# Altium footprint library GateDrivers.PcbLib: 7 footprints
Each footprint in its own frame and in the unit in brackets; x right, y up, seen from the top. Pads: shape width x height; smd on the part's side, far side on the other; paste and mask are expansions set on the pad; w line width, h text height; cw(c..) or ccw(c..) is an arc to the next point about the centre after c.
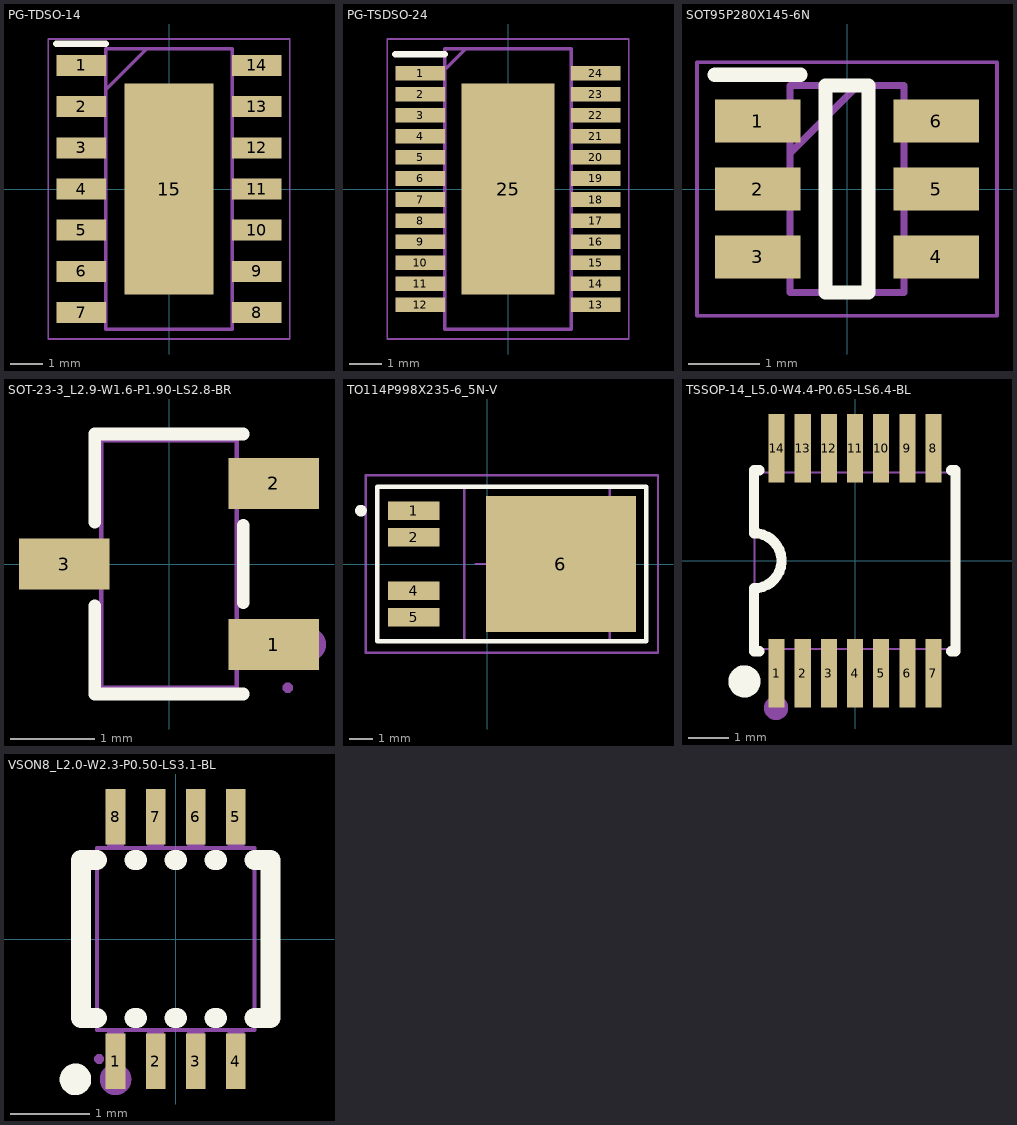
[diagram p0: the footprints below, top view; thin cyan lines are the x and y axes]

## PG-TDSO-14 [mm]
pads (15):
  rect 1.525x0.65 smd: 1(-2.712,3.81) 2(-2.712,2.54) 3(-2.712,1.27) 4(-2.712,0) 5(-2.712,-1.27) 6(-2.712,-2.54) 7(-2.712,-3.81) 8(2.712,-3.81) 9(2.712,-2.54) 10(2.712,-1.27) 11(2.712,0) 12(2.712,1.27) 13(2.712,2.54) 14(2.712,3.81)
  rect 2.75x6.5 smd: 15(0,0)
Top Overlay:
  lines w0.2: -3.475,4.485 -1.95,4.485
Mechanical 13:
  lines w0.1: -1.95,3.055 -0.68,4.325 ; -1.95,-4.325 -1.95,4.325 1.95,4.325 1.95,-4.325 -1.95,-4.325
Mechanical 15:
  lines w0.05: -3.725,-4.625 -3.725,4.625 3.725,4.625 3.725,-4.625 -3.725,-4.625
3D body "BTT60502ERAXUMA1.stp": height 1.15, standoff 0, extent -3,-4.325 3,4.325

## PG-TSDSO-24 [mm]
pads (25):
  rect 1.525x0.45 smd: 1(-2.712,3.575) 2(-2.712,2.925) 3(-2.712,2.275) 4(-2.712,1.625) 5(-2.712,0.975) 6(-2.712,0.325) 7(-2.712,-0.325) 8(-2.712,-0.975) 9(-2.712,-1.625) 10(-2.712,-2.275) 11(-2.712,-2.925) 12(-2.712,-3.575) 13(2.712,-3.575) 14(2.712,-2.925) 15(2.712,-2.275) 16(2.712,-1.625) 17(2.712,-0.975) 18(2.712,-0.325) 19(2.712,0.325) 20(2.712,0.975) 21(2.712,1.625) 22(2.712,2.275) 23(2.712,2.925) 24(2.712,3.575)
  rect 2.87x6.5 smd: 25(0,0)
Top Overlay:
  lines w0.2: -3.475,4.15 -1.95,4.15
Mechanical 13:
  lines w0.1: -1.95,3.675 -1.3,4.325 ; -1.95,-4.325 1.95,-4.325 1.95,4.325 -1.95,4.325 -1.95,-4.325
Mechanical 15:
  lines w0.05: -3.725,-4.625 3.725,-4.625 3.725,4.625 -3.725,4.625 -3.725,-4.625
3D body "BTT62004ESAXUMA1.stp": height 1.15, standoff 0, extent -3,-4.325 3,4.325

## SOT95P280X145-6N [mm]
pads (6):
  rect 1.2x0.6 smd: 1(-1.25,0.95) 2(-1.25,0) 3(-1.25,-0.95) 4(1.25,-0.95) 5(1.25,0) 6(1.25,0.95)
Top Overlay:
  lines w0.2: -1.85,1.6 -0.65,1.6 ; -0.3,-1.45 -0.3,1.45 0.3,1.45 0.3,-1.45 -0.3,-1.45
Mechanical 13:
  lines w0.1: -0.8,0.5 0.15,1.45 ; -0.8,-1.45 -0.8,1.45 0.8,1.45 0.8,-1.45 -0.8,-1.45
Mechanical 15:
  lines w0.05: -2.1,-1.775 -2.1,1.775 2.1,1.775 2.1,-1.775 -2.1,-1.775
3D body "SN74LVC1T45DBVR.stp": height 1.2, standoff 0, extent -1.4,-1.45 1.4,1.45

## SOT-23-3_L2.9-W1.6-P1.90-LS2.8-BR [mm]
pads (3):
  rect 1.07x0.6 smd: 1(1.235,-0.95) 2(1.235,0.95) 3(-1.235,0)
Top Overlay:
  lines w0.152: -0.876,-0.495 -0.876,-1.536 0.876,-1.536 ; -0.876,0.495 -0.876,1.536 0.876,1.536 ; 0.876,-0.455 0.876,0.455
Mechanical 6:
  circle w0.2: c1.651,-0.95 r0.1
Mechanical 15:
  region: 1.46,-1.46 1.46,-1.435 1.425,-1.4 1.375,-1.4 1.34,-1.435 1.34,-1.46 1.34,-1.485 1.375,-1.52 1.425,-1.52 1.46,-1.485 1.46,-1.46
  region: 0.95,-1.15 0.95,-0.75 1.4,-0.75 1.4,-1.15
  region: 0.79,-1.15 0.79,-0.75 0.96,-0.75 0.96,-1.15
  region: 0.95,0.75 0.95,1.15 1.4,1.15 1.4,0.75
  region: 0.79,0.75 0.79,1.15 0.96,1.15 0.96,0.75
  region: -0.95,-0.2 -0.95,0.2 -1.4,0.2 -1.4,-0.2
  region: -0.96,-0.2 -0.96,0.2 -0.79,0.2 -0.79,-0.2
  lines w0.051: -0.8,-1.46 -0.8,1.46 0.8,1.46 0.8,-1.46 -0.8,-1.46

## TO114P998X235-6_5N-V [mm] "TO,1.14mm pitch;5 pin,9.98mm L X 6.12mm W X 2.35mm H body"
height 2.35
pads (5):
  rect 2.2x0.8 smd paste+0 mask+0: 1(-3.15,2.28) 2(-3.15,1.14) 4(-3.15,-1.14) 5(-3.15,-2.28)
  rect 6.4x5.8 smd paste+0 mask+0: 6(3.15,0)
Top Overlay:
  circle w0.25: c-5.4,2.28 r0.125
  lines w0.2: -4.7,-3.3 -4.7,3.3 6.8,3.3 6.8,-3.3 -4.7,-3.3
Mechanical 3:
  text ".DESIGNATOR" at 0,0 h1.2
Mechanical 13:
  lines w0.1: -0.98,-3.25 5.24,-3.25 5.24,3.25 -0.98,3.25 -0.98,-3.25
Mechanical 15:
  lines w0.1: -0.5,0 0.5,0 ; 0,-0.5 0,0.5 ; -5.2,-3.8 7.3,-3.8 7.3,3.8 -5.2,3.8 -5.2,-3.8
3D body "PG-TO252-5-11.stp": height 2.36, standoff 0, extent -3.94,-3.25 6.04,3.25

## TSSOP-14_L5.0-W4.4-P0.65-LS6.4-BL [mm]
pads (14):
  rect 0.4x1.7 smd: 1(-1.95,-2.8) 2(-1.3,-2.8) 3(-0.65,-2.8) 4(0,-2.8) 5(0.65,-2.8) 6(1.3,-2.8) 7(1.95,-2.8) 8(1.95,2.8) 9(1.3,2.8) 10(0.65,2.8) 11(0,2.8) 12(-0.65,2.8) 13(-1.3,2.8) 14(-1.95,2.8)
Top Overlay:
  circle w0.4: c-2.75,-3 r0.2
  lines w0.254: -2.515,-2.25 -2.515,-1.6 -2.515,-0.686 ccw(c-2.515,0) -2.515,0.686 -2.515,1.6 -2.515,2.25 ; -2.5,-2.25 -2.384,-2.25 ; -2.5,2.25 -2.384,2.25 ; 2.384,-2.25 2.5,-2.25 2.5,2.25 2.384,2.25
Mechanical 6:
  circle w0.3: c-1.964,-3.662 r0.15
Mechanical 15:
  drawing of 33 lines, arcs and shapes, not listed

## VSON8_L2.0-W2.3-P0.50-LS3.1-BL [mm]
pads (8):
  rect 0.25x0.7 smd: 1(-0.762,-1.55) 2(-0.254,-1.55) 3(0.254,-1.55) 4(0.762,-1.55) 5(0.762,1.55) 6(0.254,1.55) 7(-0.254,1.55) 8(-0.762,1.55)
Top Overlay:
  circle w0.2: c-1.27,-1.778 r0.1
  lines w0.254: -1,-1 -1.2,-1 -1.2,1 -1,1 ; -0.524,-1 -0.492,-1 ; -0.524,1 -0.492,1 ; -0.016,-1 0.016,-1 ; -0.016,1 0.016,1 ; 0.492,-1 0.524,-1 ; 0.492,1 0.524,1 ; 1,-1 1.2,-1 1.2,1 1,1
Mechanical 6:
  circle w0.2: c-0.762,-1.778 r0.1
Mechanical 15:
  region: -0.91,-1.52 -0.91,-1.495 -0.945,-1.46 -0.995,-1.46 -1.03,-1.495 -1.03,-1.52 -1.03,-1.545 -0.995,-1.58 -0.945,-1.58 -0.91,-1.545 -0.91,-1.52
  region: -0.867,1.14 -0.867,1.285 -0.657,1.285 -0.657,1.14
  region: -0.867,1.275 -0.867,1.55 -0.657,1.55 -0.657,1.275
  region: -0.359,1.14 -0.359,1.285 -0.149,1.285 -0.149,1.14
  region: -0.359,1.275 -0.359,1.55 -0.149,1.55 -0.149,1.275
  region: 0.149,1.14 0.149,1.285 0.359,1.285 0.359,1.14
  region: 0.149,1.275 0.149,1.55 0.359,1.55 0.359,1.275
  region: 0.657,1.14 0.657,1.285 0.867,1.285 0.867,1.14
  region: 0.657,1.275 0.657,1.55 0.867,1.55 0.867,1.275
  region: 0.657,-1.285 0.657,-1.14 0.867,-1.14 0.867,-1.285
  region: 0.657,-1.55 0.657,-1.275 0.867,-1.275 0.867,-1.55
  region: 0.149,-1.285 0.149,-1.14 0.359,-1.14 0.359,-1.285
  region: 0.149,-1.55 0.149,-1.275 0.359,-1.275 0.359,-1.55
  region: -0.359,-1.285 -0.359,-1.14 -0.149,-1.14 -0.149,-1.285
  region: -0.359,-1.55 -0.359,-1.275 -0.149,-1.275 -0.149,-1.55
  region: -0.867,-1.285 -0.867,-1.14 -0.657,-1.14 -0.657,-1.285
  region: -0.867,-1.55 -0.867,-1.275 -0.657,-1.275 -0.657,-1.55
  lines w0.051: -1,-1.15 1,-1.15 1,1.15 -1,1.15 -1,-1.15